# EAGLE library part VS1063 (library SparkFun-DigitalIC)
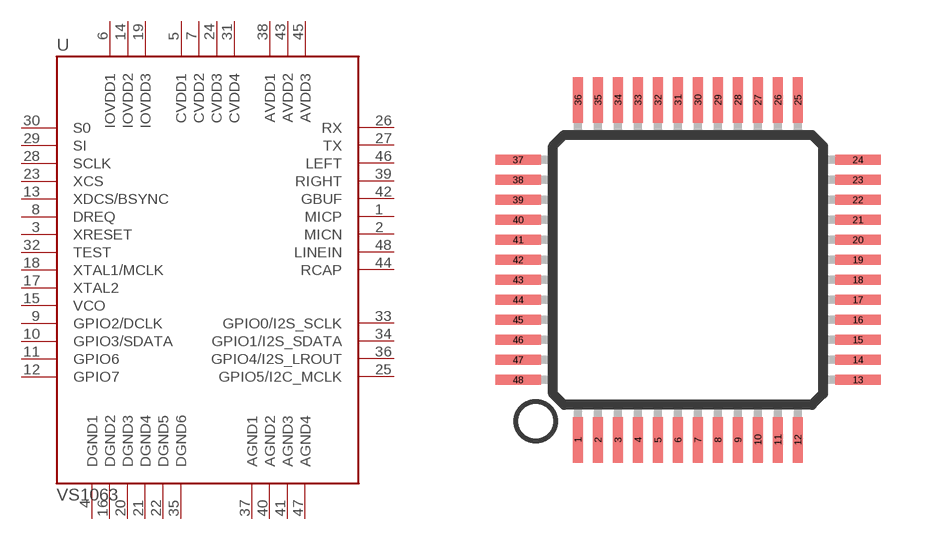
[diagram p41: symbol with the pads of LQFP-48; footprint LQFP-48]

Designator prefix -

## VS1063SMD (PROD_ID: IC-10870)  [LQFP-48]
1  MICP
2  MICN
3  XRESET
4  DGND1
5  CVDD1
6  IOVDD1
7  CVDD2
8  DREQ
9  GPIO2/DCLK
10  GPIO3/SDATA
11  GPIO6
12  GPIO7
13  XDCS/BSYNC
14  IOVDD2
15  VCO
16  DGND2
17  XTAL2
18  XTAL1/MCLK
19  IOVDD3
20  DGND3
21  DGND4
22  DGND5
23  XCS
24  CVDD3
25  GPIO5/I2C_MCLK
26  RX
27  TX
28  SCLK
29  SI
30  S0
31  CVDD4
32  TEST
33  GPIO0/I2S_SCLK
34  GPIO1/I2S_SDATA
35  DGND6
36  GPIO4/I2S_LROUT
37  AGND1
38  AVDD1
39  RIGHT
40  AGND2
41  AGND3
42  GBUF
43  AVDD2
44  RCAP
45  AVDD3
46  LEFT
47  AGND4
48  LINEIN

## Footprint LQFP-48 (pad centres in mm)
smd 0.254 x 1.143: 1 -2.75,-4.25; 2 -2.25,-4.25; 3 -1.75,-4.25; 4 -1.25,-4.25; 5 -0.75,-4.25; 6 -0.25,-4.25; 7 0.25,-4.25; 8 0.75,-4.25; 9 1.25,-4.25; 10 1.75,-4.25; 11 2.25,-4.25; 12 2.75,-4.25; 25 2.75,4.25; 26 2.25,4.25; 27 1.75,4.25; 28 1.25,4.25; 29 0.75,4.25; 30 0.25,4.25; 31 -0.25,4.25; 32 -0.75,4.25; 33 -1.25,4.25; 34 -1.75,4.25; 35 -2.25,4.25; 36 -2.75,4.25
smd 1.143 x 0.254: 13 4.25,-2.75; 14 4.25,-2.25; 15 4.25,-1.75; 16 4.25,-1.25; 17 4.25,-0.75; 18 4.25,-0.25; 19 4.25,0.25; 20 4.25,0.75; 21 4.25,1.25; 22 4.25,1.75; 23 4.25,2.25; 24 4.25,2.75; 37 -4.25,2.75; 38 -4.25,2.25; 39 -4.25,1.75; 40 -4.25,1.25; 41 -4.25,0.75; 42 -4.25,0.25; 43 -4.25,-0.25; 44 -4.25,-0.75; 45 -4.25,-1.25; 46 -4.25,-1.75; 47 -4.25,-2.25; 48 -4.25,-2.75